# Altium footprint library Inductor0805(2012).PcbLib: 1 footprints
Each footprint in its own frame and in the unit in brackets; x right, y up, seen from the top. Pads: shape width x height; smd on the part's side, far side on the other; paste and mask are expansions set on the pad; w line width, h text height; cw(c..) or ccw(c..) is an arc to the next point about the centre after c.
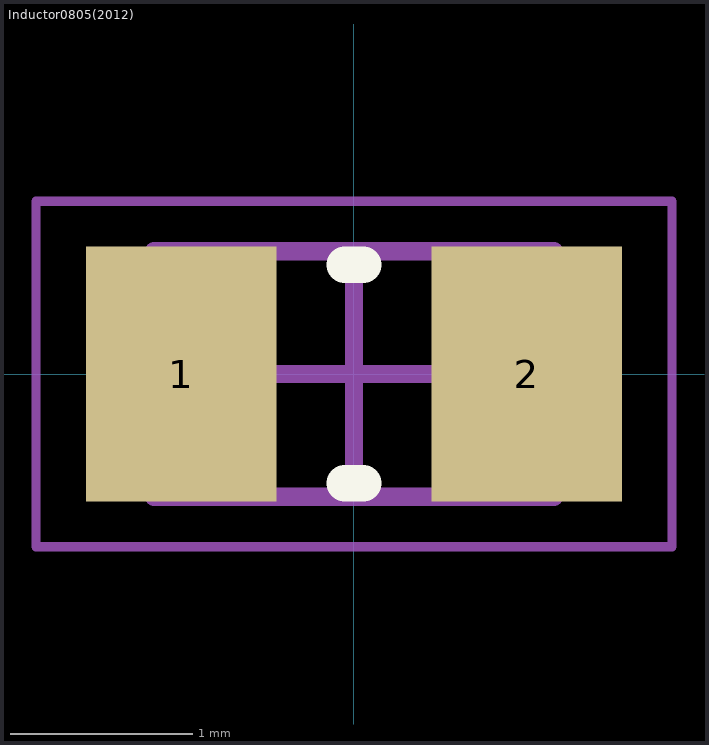
[diagram p0: the footprint, top view; thin cyan lines are the x and y axes]

## Inductor0805(2012) [mm] "Chip Resistor, Body 2.0x1.3mm, IPC Medium Density"
height 0.7
pads (2):
  rect 1.05x1.4 smd: 1(-0.95,0) 2(0.95,0)
Top Overlay:
  lines w0.2: -0.05,-0.6 0.05,-0.6 ; -0.05,0.6 0.05,0.6
Mechanical 13:
  lines w0.1: -1.1,-0.675 1.1,-0.675 1.1,0.675 -1.1,0.675 -1.1,-0.675
Mechanical 15:
  lines w0.05: -1.75,-0.95 1.75,-0.95 1.75,0.95 -1.75,0.95 -1.75,-0.95
  lines w0.1: -0.5,0 0.5,0 ; 0,-0.5 0,0.5
3D body: height 0.7, standoff 0, extent -1.1,-0.675 -0.68,0.675
3D body: height 0.7, standoff 0, extent -0.68,-0.675 0.68,0.675
3D body: height 0.7, standoff 0, extent 0.68,-0.675 1.1,0.675